# EAGLE library part M10478 (library custom-components)
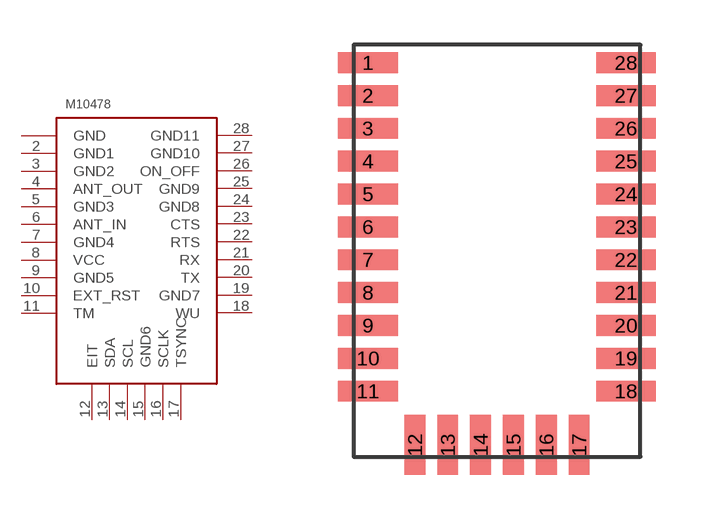
[diagram p0: symbol with the pads of M10478; footprint M10478]

Designator prefix -

## M10478  [M10478]
1  GND
2  GND1
3  GND2
4  ANT_OUT
5  GND3
6  ANT_IN
7  GND4
8  VCC
9  GND5
10  EXT_RST
11  TM
12  EIT
13  SDA
14  SCL
15  GND6
16  SCLK
17  TSYNC
18  WU
19  GND7
20  TX
21  RX
22  RTS
23  CTS
24  GND8
25  GND9
26  ON_OFF
27  GND10
28  GND11

## Footprint M10478 (pad centres in mm)
smd 2 x 0.7: 1 -4.32,1.835; 2 -4.32,0.735; 3 -4.32,-0.365; 4 -4.32,-1.465; 5 -4.32,-2.565; 6 -4.32,-3.665; 7 -4.32,-4.765; 8 -4.32,-5.865; 9 -4.32,-6.965; 10 -4.32,-8.065; 11 -4.32,-9.165; 18 4.32,-9.165; 19 4.32,-8.065; 20 4.32,-6.965; 21 4.32,-5.865; 22 4.32,-4.765; 23 4.32,-3.665; 24 4.32,-2.565; 25 4.32,-1.465; 26 4.32,-0.365; 27 4.32,0.735; 28 4.32,1.835
smd 0.7 x 2: 12 -2.75,-10.965; 13 -1.65,-10.965; 14 -0.55,-10.965; 15 0.55,-10.965; 16 1.65,-10.965; 17 2.75,-10.965